# Altium footprint library SOT65P210X100-3N.PcbLib: 1 footprints
Each footprint in its own frame and in the unit in brackets; x right, y up, seen from the top. Pads: shape width x height; smd on the part's side, far side on the other; paste and mask are expansions set on the pad; w line width, h text height; cw(c..) or ccw(c..) is an arc to the next point about the centre after c.
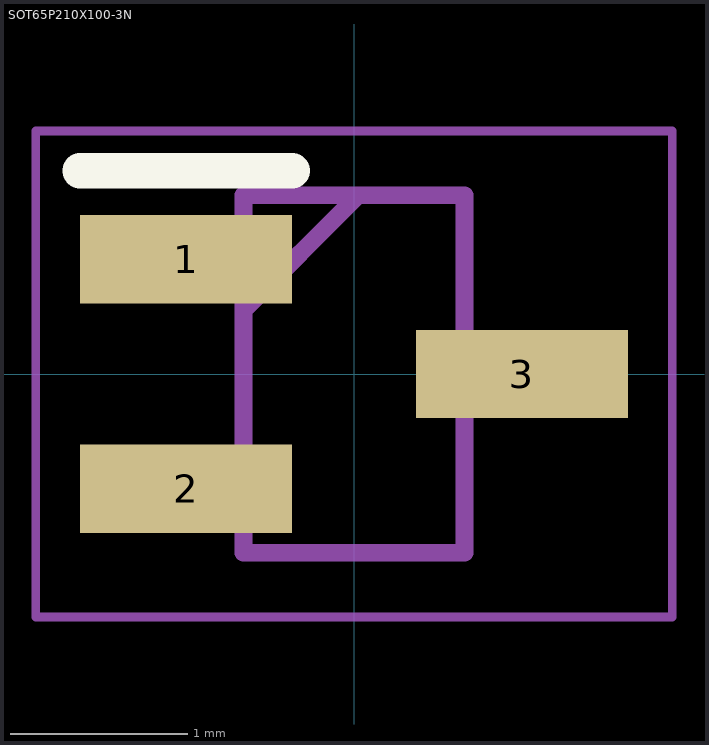
[diagram p0: the footprint, top view; thin cyan lines are the x and y axes]

## SOT65P210X100-3N [mm]
pads (3):
  rect 1.2x0.5 smd: 1(-0.95,0.65) 2(-0.95,-0.65) 3(0.95,0)
Top Overlay:
  lines w0.2: -1.55,1.15 -0.35,1.15
Mechanical 15:
  lines w0.1: -0.625,0.362 0.025,1.012 ; -0.625,-1.012 0.625,-1.012 0.625,1.012 -0.625,1.012 -0.625,-1.012
Mechanical 20:
  lines w0.05: -1.8,-1.375 1.8,-1.375 1.8,1.375 -1.8,1.375 -1.8,-1.375
3D body "HSMS-285C-BLKG.stp": height 1, standoff 0, extent -1.05,-1.012 1.05,1.012